# EAGLE library part TXS0102DCUTG4 (library TXS0102DCUTG4)
2-Bit Bidirectional Voltage-Level Shifter for Open-Drain and Push-Pull Application Source: Datasheet <http://www.ti.com/lit/gpn/TXS0102>
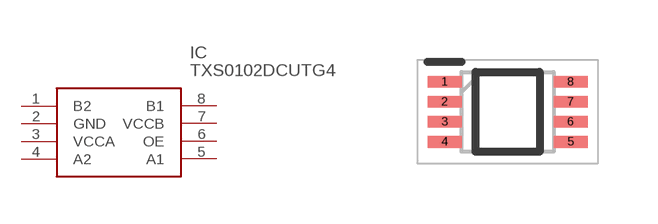
[diagram p0: symbol with the pads of SOP50P310X90-8N; footprint SOP50P310X90-8N]

Designator prefix IC

## TXS0102DCUTG4 (Description: 2-Bit Bidirectional Voltage-Level Shifter for Open-Drain and Push-Pull Application; Height: 0.9mm; Manufacturer_Name: Texas Instruments; Manufacturer_Part_Number: TXS0102DCUTG4; Mouser_Part_Number: 595-TXS0102DCUTG4; Mouser_Price-Stock: https://www.mouser.co.uk/ProductDetail/Texas-Instruments/TXS0102DCUTG4?qs=0OHPnBYoB%2FliJ1RXxm0IJQ%3D%3D)  [SOP50P310X90-8N]
1  B2
2  GND
3  VCCA
4  A2
5  A1
6  OE
7  VCCB
8  B1

## Footprint SOP50P310X90-8N (pad centres in mm)
DCU (R-PDSO-G8)
smd 0.85 x 0.3: 1 -1.575,0.75; 2 -1.575,0.25; 3 -1.575,-0.25; 4 -1.575,-0.75; 5 1.575,-0.75; 6 1.575,-0.25; 7 1.575,0.25; 8 1.575,0.75